# EAGLE library part 62532620621 (library Wuerth_Elektronik_eiCan_05_Box_Header_IDC_Connectors_1_2)
WR-BHD 2.00mm Male SMT Box Header High Temperature, 26 pins
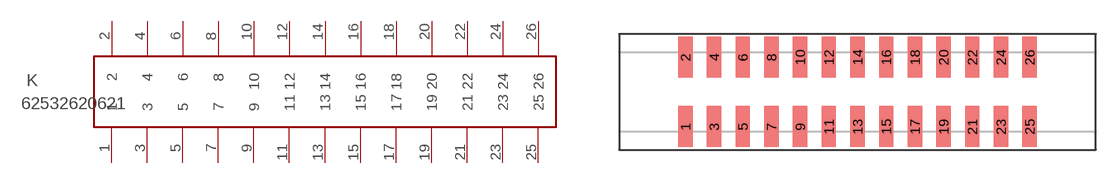
[diagram p50: symbol with the pads of 62532620621; footprint 62532620621]

Designator prefix K

## 62532620621  [62532620621]
1  1  pas
2  2  pas
3  3  pas
4  4  pas
5  5  pas
6  6  pas
7  7  pas
8  8  pas
9  9  pas
10  10  pas
11  11  pas
12  12  pas
13  13  pas
14  14  pas
15  15  pas
16  16  pas
17  17  pas
18  18  pas
19  19  pas
20  20  pas
21  21  pas
22  22  pas
23  23  pas
24  24  pas
25  25  pas
26  26  pas

## Footprint 62532620621 (pad centres in mm)
WRBHD-2.00mm Male SMT Box Header High Temperature,26 pins
smd 1 x 2.85: 1 -8,-2.425; 2 -8,2.425; 3 -6,-2.425; 4 -6,2.425; 5 -4,-2.425; 6 -4,2.425; 7 -2,-2.425; 8 -2,2.425; 9 0,-2.425; 10 0,2.425; 11 2,-2.425; 12 2,2.425; 13 4,-2.425; 14 4,2.425; 15 6,-2.425; 16 6,2.425; 17 8,-2.425; 18 8,2.425; 19 10,-2.425; 20 10,2.425; 21 12,-2.425; 22 12,2.425; 23 14,-2.425; 24 14,2.425; 25 16,-2.425; 26 16,2.425